# Altium footprint library RayPCB20210502.PcbLib: 218 footprints (part 12 of 14)
Each footprint in its own frame and in the unit in brackets; x right, y up, seen from the top. Pads: shape width x height; smd on the part's side, far side on the other; paste and mask are expansions set on the pad; w line width, h text height; cw(c..) or ccw(c..) is an arc to the next point about the centre after c.
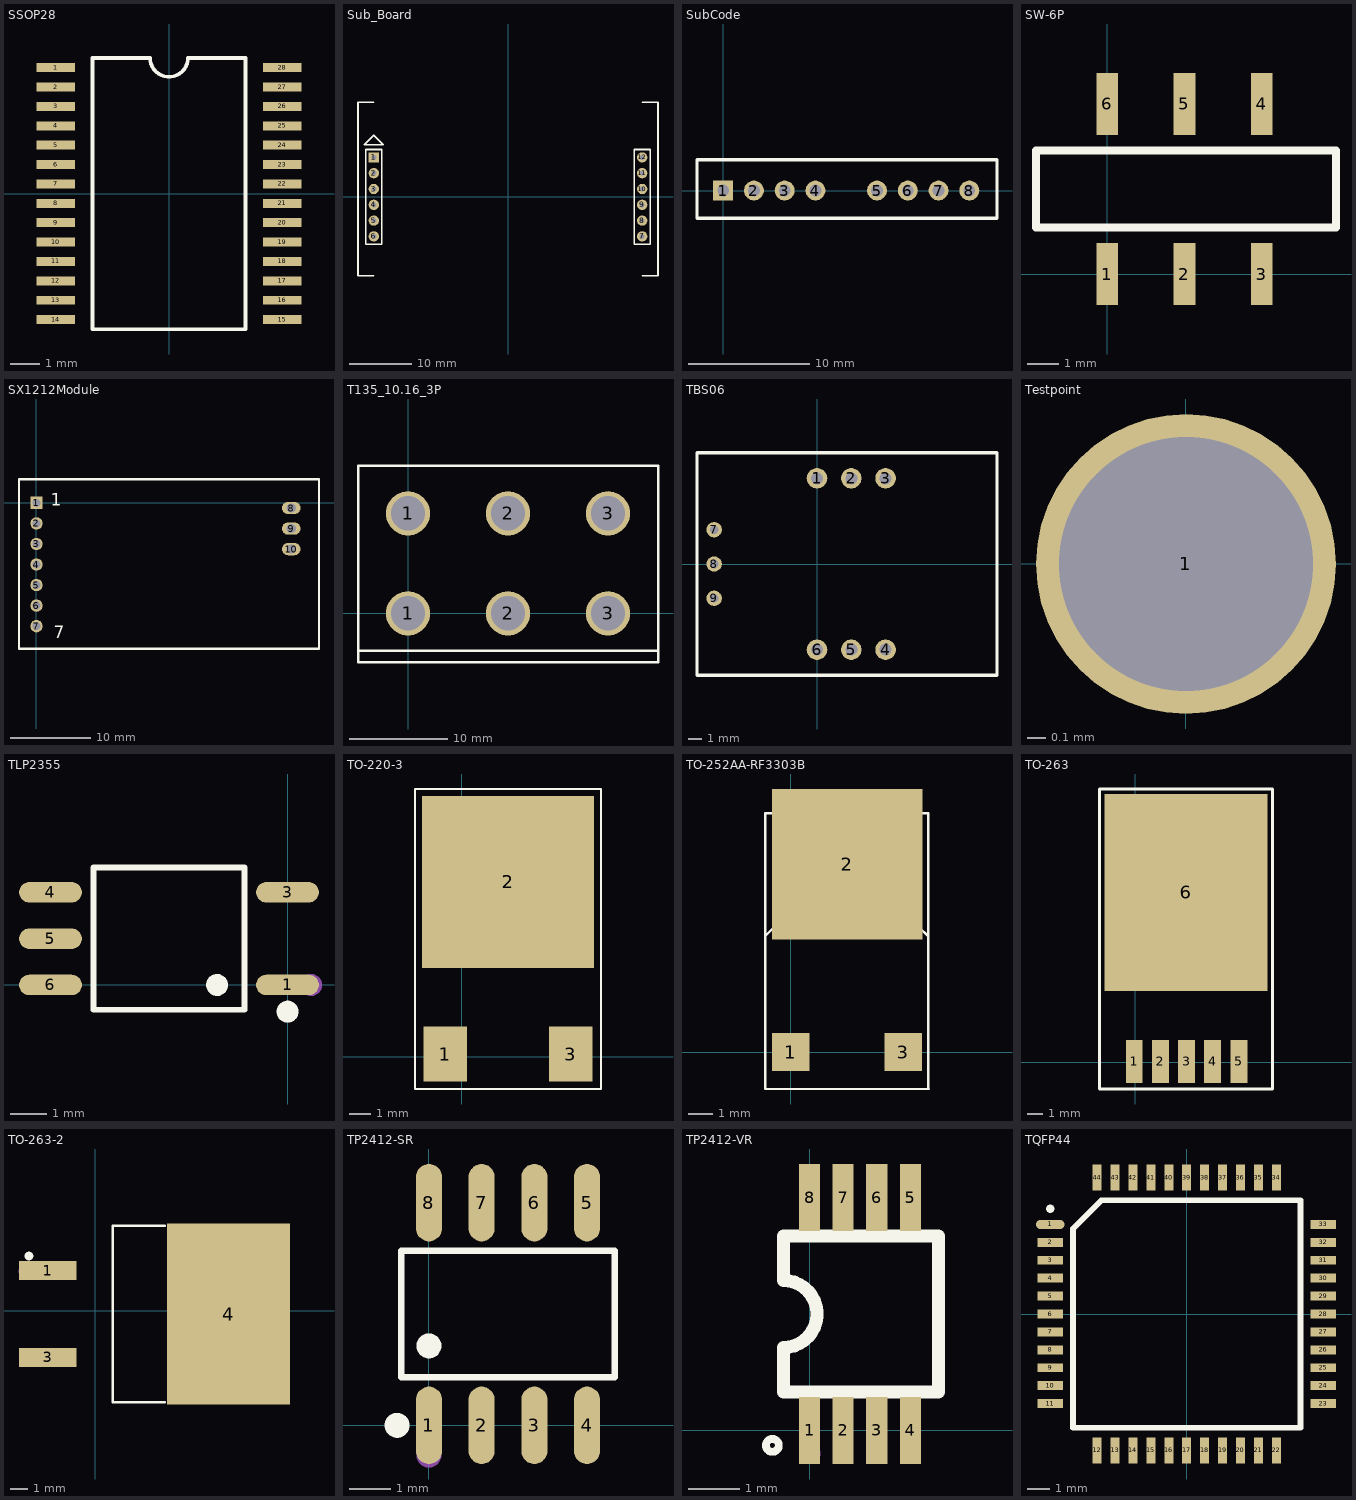
[diagram p11: the footprints below, top view; thin cyan lines are the x and y axes]

## SSOP28 [mm] "FT232_RL"
pads (28):
  rect 1.3x0.3 smd: 1(-3.8,4.225) 2(-3.8,3.575) 3(-3.8,2.925) 4(-3.8,2.275) 5(-3.8,1.625) 6(-3.8,0.975) 7(-3.8,0.325) 8(-3.8,-0.325) 9(-3.8,-0.975) 10(-3.8,-1.625) 11(-3.8,-2.275) 12(-3.8,-2.925) 13(-3.8,-3.575) 14(-3.8,-4.225) 15(3.8,-4.225) 16(3.8,-3.575) 17(3.8,-2.925) 18(3.8,-2.275) 19(3.8,-1.625) 20(3.8,-0.975) 21(3.8,-0.325) 22(3.8,0.325) 23(3.8,0.975) 24(3.8,1.625) 25(3.8,2.275) 26(3.8,2.925) 27(3.8,3.575) 28(3.8,4.225)
Top Overlay:
  lines w0.127: -2.563,-4.55 2.563,-4.55 2.563,4.55 0.635,4.55 cw(c0,4.55) -0.635,4.55 -2.563,4.55 -2.563,-4.55

## Sub_Board [mil]
pads (12):
  rect 65x65 hole 32: 1(-850,250)
  round 65 hole 32: 2(-850,150) 3(-850,50) 4(-850,-50) 5(-850,-150) 6(-850,-250) 7(850,-250) 8(850,-150) 9(850,-50) 10(850,50) 11(850,150) 12(850,250)
Top Overlay:
  lines w10: -850,-500 -950,-500 -950,600 -850,600 ; 850,-500 950,-500 950,600 850,600 ; -910,330 -790,330 -850,390 -910,330 ; -900,-300 -800,-300 -800,300 -900,300 -900,-300 ; 800,-300 900,-300 900,300 800,300 800,-300

## SubCode [mil]
pads (8):
  rect 65x65 hole 38: 1(0,0)
  round 65 hole 38: 2(100,0) 3(200,0) 4(300,0) 5(500,0) 6(600,0) 7(700,0) 8(800,0)
Top Overlay:
  lines w10: -85,-90 890,-90 890,100 -85,100 -85,-90

## SW-6P [mm]
pads (6):
  rect 0.7x2 smd: 1(0,0) 2(2.5,0) 3(5,0) 4(5,5.5) 5(2.5,5.5) 6(0,5.5)
Top Overlay:
  lines w0.254: -2.3,1.5 -2.3,4 7.4,4 7.4,1.5 -2.3,1.5

## SX1212Module [mil]
pads (10):
  rect 60x60 hole 39: 1(0,0)
  round 60 hole 39: 2(0,-100) 3(0,-200) 4(0,-300) 5(0,-400) 6(0,-500) 7(0,-600)
  oval 90x60 hole 45: 8(1240,-25) 9(1240,-125) 10(1240,-225)
Top Overlay:
  lines w10: -85,-710 -85,115 1375,115 1375,-710 -85,-710
  text "7" at 85,-660 h60
  text "1" at 70,-15 h60

## T135_10.16_3P [mm]
pads (6):
  round 4.5 hole 3.5: 1(0,0) 1(0,10.16) 2(10.16,0) 2(10.16,10.16) 3(20.32,0) 3(20.32,10.16)
Top Overlay:
  lines w0.254: -5.08,-3.81 25.4,-3.81 ; -5.08,-4.953 -5.08,14.986 25.4,14.986 25.4,-4.953 -5.08,-4.953

## TBS06 [mil]
pads (9):
  round 60 hole 35: 1(0,250) 2(100,250) 3(200,250) 4(200,-250) 5(100,-250) 6(0,-250)
  round 45 hole 25: 7(-300,100) 8(-300,0) 9(-300,-100)
Top Overlay:
  lines w10: -350,-325 525,-325 525,325 -350,325 -350,150 -350,-200 -350,-325

## Testpoint [mil]
pads (1):
  round 65 hole 55: 1(0,0)

## TLP2355 [mm]
pads (5):
  oval 1.727x0.56 smd: 1(0,0) 3(0,2.54) 4(-6.501,2.54) 5(-6.501,1.27) 6(-6.501,0)
Top Overlay:
  circle w0.3: c0,-0.732 r0.15
  circle w0.3: c-1.931,0 r0.15
  lines w0.152: -5.322,-0.681 -5.322,3.221 -1.179,3.221 -1.179,-0.681 -5.322,-0.681
Mechanical 15:
  circle w0.3: c0.65,0 r0.15

## TO-220-3 [mil] "MC78XX"
pads (3):
  rect 80x100 smd: 1(-30,5) 3(200,5)
  rect 314.96x314.96 smd: 2(85,320)
Top Overlay:
  lines w3.94: -85,-59.06 -85,490 255,490 255,-59.06 -85,-59.06

## TO-252AA-RF3303B [mil] "IRLR3303 NMOS"
pads (3):
  rect 60x60 smd: 1(0,0) 3(179,0)
  rect 240x240 smd: 2(90,300)
Top Overlay:
  lines w3.94: -41,-59.06 -41,381 219,381 219,-59.06 ; -41,177 -41,195 ; -41,185 -26,200 85,200 201,200 ; -40,-59.06 220,-59.06 ; 193,200 204,200 219,185

## TO-263 [mm] "LM2596  5PIN"
pads (6):
  rect 1.1x2.8 smd: 1(-0.064,0.064) 2(1.637,0.064) 3(3.337,0.064) 4(5.036,0.064) 5(6.737,0.064)
  rect 10.6x12.8 smd: 6(3.302,11.049)
Top Overlay:
  lines w0.2: -2.337,-1.734 8.918,-1.734 8.918,17.78 -2.337,17.78 -2.337,-1.734

## TO-263-2 [mil]
pads (3):
  rect 132.23x44.65 smd: 1(-108.89,93) 3(-108.89,-107)
  rect 282.7x416 smd: 4(307.32,-7)
Top Overlay:
  circle w10: c-152.15,126.38 r5
  lines w6: 159.97,-210 40.92,-210 40.92,196 159.97,196
Mechanical 15:
  circle w10: c-166.23,91.08 r5

## TP2412-SR [mm]
pads (8):
  oval 0.63x1.865 smd: 1(0,0) 2(1.27,0) 3(2.54,0) 4(3.81,0) 5(3.81,5.365) 6(2.54,5.365) 7(1.27,5.365) 8(0,5.365)
Top Overlay:
  circle w0.3: c-0.767,0 r0.15
  circle w0.3: c0,1.913 r0.15
  lines w0.152: -0.671,1.161 4.481,1.161 4.481,4.204 -0.671,4.204 -0.671,1.161
Mechanical 15:
  circle w0.3: c0,-0.718 r0.15

## TP2412-VR [mm] "运算放大器"
pads (8):
  rect 0.406x1.3 smd: 1(0,0) 2(0.65,0) 3(1.3,0) 4(1.95,0) 5(1.95,4.5) 6(1.3,4.5) 7(0.65,4.5) 8(0,4.5)
Top Overlay:
  lines w0.15: -0.72,-0.165 ccw(c-0.719,-0.29) -0.718,-0.165
  lines w0.254: -0.506,0.739 2.494,0.739 2.494,3.739 ; -0.503,0.739 -0.503,1.602 ccw(c-0.503,2.25) -0.503,2.898 -0.503,3.761 2.497,3.761
Mechanical 15:
  circle w0.2: c0.013,-0.45 r0.1

## TQFP44 [mil]
pads (45):
  oval 50x15.75 smd: 1(-240,157.48)
  rect 45x15.75 smd: 2(-240,125.98) 3(-240,94.49) 4(-240,62.99) 5(-240,31.5) 6(-240,0) 7(-240,-31.5) 8(-240,-62.99) 9(-240,-94.49) 10(-240,-125.98) 11(-240,-157.48) 23(240,-157.48) 24(240,-125.98) 25(240,-94.49) 26(240,-62.99) 27(240,-31.5) 28(240,0) 29(240,31.5) 30(240,62.99) 31(240,94.49) 32(240,125.98) 33(240,157.48)
  rect 15.75x45 smd: 12(-157.48,-240) 13(-125.98,-240) 14(-94.49,-240) 15(-62.99,-240) 16(-31.5,-240) 17(0,-240) 18(31.5,-240) 19(62.99,-240) 20(94.49,-240) 21(125.98,-240) 22(157.48,-240) 34(157.48,240) 35(125.98,240) 36(94.49,240) 37(62.99,240) 38(31.5,240) 39(0,240) 40(-31.5,240) 41(-62.99,240) 42(-94.49,240) 43(-125.98,240) 44(-157.48,240)
  round 15 on Top Overlay: 45(-240,185)
Top Overlay:
  lines w10: -200,150 -200,-200 200,-200 200,200 -150,200 ; -200,150 -150,200 ; -200,150 -150,200